# Altium integrated library Renesas Transistor.IntLib: 835 symbols (part 11 of 18)
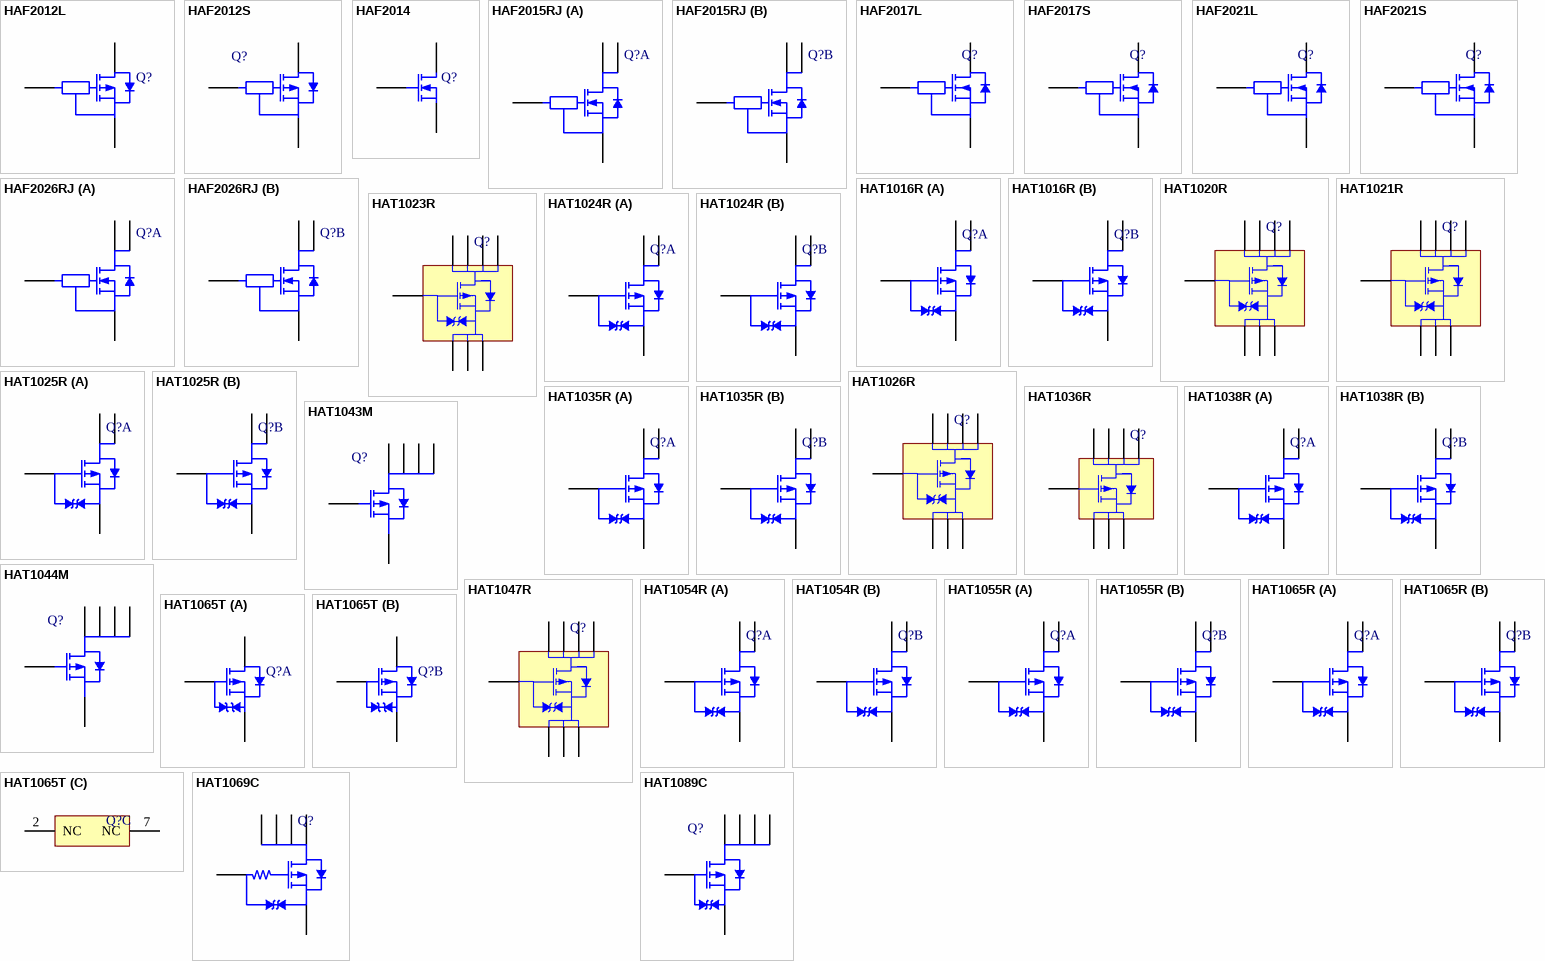
[diagram p32: symbols HAF2012L to HAT1089C]

## HAT1036R
designator Q?
Silicon P-Channel Power MOSFET, Power Switching; Published: 30-Oct-2009; DatasheetVersion: Rev.7.00, Sep-2005; PackageVersion: Sep-2005; PackageReference: PRSP0008DD-A; Publisher: Altium Limited; PackageDescription: 8-Pin Plastic Small Outline Integrated Circuit 1.27 mm Pitch (SOP-8); Code_IPC: SOIC127P600-8; ComponentLink1Description: Manufacturer Link; ComponentLink1URL: http://sg.renesas.com/fmwk.jsp?cnt=discrete_category_landing.jsp&fp=/products/discrete/; ComponentLink2Description: Datasheet; ComponentLink2URL: http://documentation.renesas.com/eng/products/transistor/rej03g1149_hat1036rds.pdf; ComponentLink3Description: Packaging Specification; ComponentLink3URL: http://sg.renesas.com/media/products/common_info/package/pdf/transistor/code/prsp0008dd_a.pdf
footprint PRSP0008DD-A_N (SOIC, 8-Leads, Body 4.9x3.95mm, Pitch 1.27mm, IPC Medium Density)
footprint PRSP0008DD-A_L (SOIC, 8-Leads, Body 4.9x3.95mm, Pitch 1.27mm, IPC High Density)
footprint PRSP0008DD-A_M (SOIC, 8-Leads, Body 4.9x3.95mm, Pitch 1.27mm, IPC Low Density)
pins: 1 S, 2 S, 3 S, 4 G, 5 D, 6 D, 7 D, 8 D

## HAT1038R
designator Q?
Silicon P-Channel Power MOSFET, High Speed Power Switching; Published: 30-Oct-2009; DatasheetVersion: Rev.5.00, Sep-2005; PackageVersion: Sep-2005; PackageReference: PRSP0008DD-A; Publisher: Altium Limited; PackageDescription: 8-Pin Plastic Small Outline Integrated Circuit 1.27 mm Pitch (SOP-8); Code_IPC: SOIC127P600-8; ComponentLink1Description: Manufacturer Link; ComponentLink1URL: http://sg.renesas.com/fmwk.jsp?cnt=discrete_category_landing.jsp&fp=/products/discrete/; ComponentLink2Description: Datasheet; ComponentLink2URL: http://documentation.renesas.com/eng/products/transistor/rej03g1150_hat1038rrjds.pdf; ComponentLink3Description: Packaging Specification; ComponentLink3URL: http://sg.renesas.com/media/products/common_info/package/pdf/transistor/code/prsp0008dd_a.pdf
footprint PRSP0008DD-A_N (SOIC, 8-Leads, Body 4.9x3.95mm, Pitch 1.27mm, IPC Medium Density)
footprint PRSP0008DD-A_L (SOIC, 8-Leads, Body 4.9x3.95mm, Pitch 1.27mm, IPC High Density)
footprint PRSP0008DD-A_M (SOIC, 8-Leads, Body 4.9x3.95mm, Pitch 1.27mm, IPC Low Density)
part A pins: 1 S, 2 G, 7 D, 8 D
part B pins: 3 S, 4 G, 5 D, 6 D

## HAT1043M
designator Q?
Silicon P-Channel Power MOSFET, Power Switching; Published: 30-Oct-2009; DatasheetVersion: Rev.6.00, Sep-2005; PackageVersion: Jul-2006; PackageReference: PTSP0006FA-A; Publisher: Altium Limited; PackageDescription: 6-Pin SOT-23 Package 1 mm Pitch, 2.8 mm Lead Span (TSOP-6); Code_JEITA: SC-95 Modified; ComponentLink1Description: Manufacturer Link; ComponentLink1URL: http://sg.renesas.com/fmwk.jsp?cnt=discrete_category_landing.jsp&fp=/products/discrete/; ComponentLink2Description: Datasheet; ComponentLink2URL: http://documentation.renesas.com/eng/products/transistor/rej03g1151_hat1043mds.pdf; ComponentLink3Description: Packaging Specification; ComponentLink3URL: http://sg.renesas.com/media/products/common_info/package/pdf/transistor/code/ptsp0006fa_a.pdf
footprint PTSP0006FA-A_N (SOT23, 6-Leads, Body 3x1.6mm, Pitch 1mm, Lead Span 2.8mm, IPC Medium Density)
footprint PTSP0006FA-A_L (SOT23, 6-Leads, Body 3x1.6mm, Pitch 1mm, Lead Span 2.8mm, IPC High Density)
footprint PTSP0006FA-A_M (SOT23, 6-Leads, Body 3x1.6mm, Pitch 1mm, Lead Span 2.8mm, IPC Low Density)
pins: 1 D, 2 D, 3 G, 4 S, 5 D, 6 D

## HAT1044M
designator Q?
Silicon P-Channel Power MOSFET, Power Switching; Published: 30-Oct-2009; DatasheetVersion: Rev.6.00, Sep-2005; PackageVersion: Jul-2006; PackageReference: PTSP0006FA-A; Publisher: Altium Limited; PackageDescription: 6-Pin SOT-23 Package 1 mm Pitch, 2.8 mm Lead Span (TSOP-6); Code_JEITA: SC-95 Modified; ComponentLink1Description: Manufacturer Link; ComponentLink1URL: http://sg.renesas.com/fmwk.jsp?cnt=discrete_category_landing.jsp&fp=/products/discrete/; ComponentLink2Description: Datasheet; ComponentLink2URL: http://documentation.renesas.com/eng/products/transistor/rej03g1152_hat1044mds.pdf; ComponentLink3Description: Packaging Specification; ComponentLink3URL: http://sg.renesas.com/media/products/common_info/package/pdf/transistor/code/ptsp0006fa_a.pdf
footprint PTSP0006FA-A_N (SOT23, 6-Leads, Body 3x1.6mm, Pitch 1mm, Lead Span 2.8mm, IPC Medium Density)
footprint PTSP0006FA-A_L (SOT23, 6-Leads, Body 3x1.6mm, Pitch 1mm, Lead Span 2.8mm, IPC High Density)
footprint PTSP0006FA-A_M (SOT23, 6-Leads, Body 3x1.6mm, Pitch 1mm, Lead Span 2.8mm, IPC Low Density)
pins: 1 D, 2 D, 3 G, 4 S, 5 D, 6 D

## HAT1047R
designator Q?
Silicon P-Channel Power MOSFET, High Speed Power Switching; Published: 30-Oct-2009; DatasheetVersion: Rev.5.00, Aug-2003; PackageVersion: Sep-2005; PackageReference: PRSP0008DD-A; Publisher: Altium Limited; PackageDescription: 8-Pin Plastic Small Outline Integrated Circuit 1.27 mm Pitch (SOP-8); Code_IPC: SOIC127P600-8; ComponentLink1Description: Manufacturer Link; ComponentLink1URL: http://sg.renesas.com/fmwk.jsp?cnt=discrete_category_landing.jsp&fp=/products/discrete/; ComponentLink2Description: Datasheet; ComponentLink2URL: http://documentation.renesas.com/eng/products/transistor/rej03g0074_hat1047rrj.pdf; ComponentLink3Description: Packaging Specification; ComponentLink3URL: http://sg.renesas.com/media/products/common_info/package/pdf/transistor/code/prsp0008dd_a.pdf
footprint PRSP0008DD-A_N (SOIC, 8-Leads, Body 4.9x3.95mm, Pitch 1.27mm, IPC Medium Density)
footprint PRSP0008DD-A_L (SOIC, 8-Leads, Body 4.9x3.95mm, Pitch 1.27mm, IPC High Density)
footprint PRSP0008DD-A_M (SOIC, 8-Leads, Body 4.9x3.95mm, Pitch 1.27mm, IPC Low Density)
pins: 1 S, 2 S, 3 S, 4 G, 5 D, 6 D, 7 D, 8 D

## HAT1054R
designator Q?
Silicon P-Channel Power MOSFET, High Speed Power Switching; Published: 30-Oct-2009; DatasheetVersion: Rev.3.00, Sep-2005; PackageVersion: Sep-2005; PackageReference: PRSP0008DD-A; Publisher: Altium Limited; PackageDescription: 8-Pin Plastic Small Outline Integrated Circuit 1.27 mm Pitch (SOP-8); Code_IPC: SOIC127P600-8; ComponentLink1Description: Manufacturer Link; ComponentLink1URL: http://sg.renesas.com/fmwk.jsp?cnt=discrete_category_landing.jsp&fp=/products/discrete/; ComponentLink2Description: Datasheet; ComponentLink2URL: http://documentation.renesas.com/eng/products/transistor/rej03g1154_hat1054rds.pdf; ComponentLink3Description: Packaging Specification; ComponentLink3URL: http://sg.renesas.com/media/products/common_info/package/pdf/transistor/code/prsp0008dd_a.pdf
footprint PRSP0008DD-A_N (SOIC, 8-Leads, Body 4.9x3.95mm, Pitch 1.27mm, IPC Medium Density)
footprint PRSP0008DD-A_L (SOIC, 8-Leads, Body 4.9x3.95mm, Pitch 1.27mm, IPC High Density)
footprint PRSP0008DD-A_M (SOIC, 8-Leads, Body 4.9x3.95mm, Pitch 1.27mm, IPC Low Density)
part A pins: 1 S, 2 G, 7 D, 8 D
part B pins: 3 S, 4 G, 5 D, 6 D

## HAT1055R
designator Q?
Silicon P-Channel Power MOSFET, High Speed Power Switching; Published: 30-Oct-2009; DatasheetVersion: Rev.1.00, Aug-2003; PackageVersion: Sep-2005; PackageReference: PRSP0008DD-A; Publisher: Altium Limited; PackageDescription: 8-Pin Plastic Small Outline Integrated Circuit 1.27 mm Pitch (SOP-8); Code_IPC: SOIC127P600-8; ComponentLink1Description: Manufacturer Link; ComponentLink1URL: http://sg.renesas.com/fmwk.jsp?cnt=discrete_category_landing.jsp&fp=/products/discrete/; ComponentLink2Description: Datasheet; ComponentLink2URL: http://documentation.renesas.com/eng/products/transistor/rej03g0067_hat1055r.pdf; ComponentLink3Description: Packaging Specification; ComponentLink3URL: http://sg.renesas.com/media/products/common_info/package/pdf/transistor/code/prsp0008dd_a.pdf
footprint PRSP0008DD-A_N (SOIC, 8-Leads, Body 4.9x3.95mm, Pitch 1.27mm, IPC Medium Density)
footprint PRSP0008DD-A_L (SOIC, 8-Leads, Body 4.9x3.95mm, Pitch 1.27mm, IPC High Density)
footprint PRSP0008DD-A_M (SOIC, 8-Leads, Body 4.9x3.95mm, Pitch 1.27mm, IPC Low Density)
part A pins: 1 S, 2 G, 7 D, 8 D
part B pins: 3 S, 4 G, 5 D, 6 D

## HAT1065R
designator Q?
Silicon P-Channel MOSFET, High Speed Power Switching; Published: 30-Oct-2009; DatasheetVersion: Rev.2.00, Apr-2006; PackageVersion: Sep-2005; PackageReference: PRSP0008DD-A; Publisher: Altium Limited; PackageDescription: 8-Pin Plastic Small Outline Integrated Circuit 1.27 mm Pitch (SOP-8); Code_IPC: SOIC127P600-8; ComponentLink1Description: Manufacturer Link; ComponentLink1URL: http://sg.renesas.com/fmwk.jsp?cnt=discrete_category_landing.jsp&fp=/products/discrete/; ComponentLink2Description: Datasheet; ComponentLink2URL: http://documentation.renesas.com/eng/products/transistor/rej03g0579_hat1065r.pdf; ComponentLink3Description: Packaging Specification; ComponentLink3URL: http://sg.renesas.com/media/products/common_info/package/pdf/transistor/code/prsp0008dd_a.pdf
footprint PRSP0008DD-A_N (SOIC, 8-Leads, Body 4.9x3.95mm, Pitch 1.27mm, IPC Medium Density)
footprint PRSP0008DD-A_L (SOIC, 8-Leads, Body 4.9x3.95mm, Pitch 1.27mm, IPC High Density)
footprint PRSP0008DD-A_M (SOIC, 8-Leads, Body 4.9x3.95mm, Pitch 1.27mm, IPC Low Density)
part A pins: 1 S, 2 G, 7 D, 8 D
part B pins: 3 S, 4 G, 5 D, 6 D

## HAT1065T
designator Q?
Silicon P-Channel MOSFET, High Speed Power Switching; Published: 30-Oct-2009; DatasheetVersion: Rev.2.00, Aug-2007; PackageVersion: Sep-2007; PackageReference: PTSP0008JB-B; Publisher: Altium Limited; PackageDescription: 8-Pin Plastic Thin Small Outline Package 0.65 mm Pitch (TSSOP-8); Code_JEITA: P-TSSOP8-4.4×3-0.65; ComponentLink1Description: Manufacturer Link; ComponentLink1URL: http://sg.renesas.com/fmwk.jsp?cnt=discrete_category_landing.jsp&fp=/products/discrete/; ComponentLink2Description: Datasheet; ComponentLink2URL: http://documentation.renesas.com/eng/products/transistor/rej03g0161_hat1065tds.pdf; ComponentLink3Description: Packaging Specification; ComponentLink3URL: http://sg.renesas.com/media/products/common_info/package/pdf/transistor/code/ptsp0008jb_b.pdf
footprint PTSP0008JB-B_N (TSOP, 8-Leads, Body 3x4.4mm, Pitch 0.65mm, IPC Medium Density)
footprint PTSP0008JB-B_L (TSOP, 8-Leads, Body 3x4.4mm, Pitch 0.65mm, IPC High Density)
footprint PTSP0008JB-B_M (TSOP, 8-Leads, Body 3x4.4mm, Pitch 0.65mm, IPC Low Density)
part A pins: 1 D, 3 S, 4 G
part B pins: 5 G, 6 S, 8 D
part C pins: 2 NC, 7 NC

## HAT1069C
designator Q?
Silicon P-Channel Power MOSFET, Power Switching; Published: 30-Oct-2009; DatasheetVersion: Rev.3.00, Oct-2007; PackageVersion: Jul-2006; PackageReference: PWSF0006JA-A; Publisher: Altium Limited; PackageDescription: 6-Pin Plastic Dual Lead-Flat Package 0.65 mm Pitch (CMFPAK-6); ComponentLink1Description: Manufacturer Link; ComponentLink1URL: http://sg.renesas.com/fmwk.jsp?cnt=discrete_category_landing.jsp&fp=/products/discrete/; ComponentLink2Description: Datasheet; ComponentLink2URL: http://documentation.renesas.com/eng/products/transistor/rej03g0164_hat1069c.pdf; ComponentLink3Description: Packaging Specification; ComponentLink3URL: http://sg.renesas.com/media/products/common_info/package/pdf/transistor/code/pwsf0006ja_a.pdf
footprint PWSF0006JA-A (SOP, 6-Flat Leads, Body 2x1.7x0.8mm, Pitch 0.65mm)
pins: 1 S, 2 D, 3 D, 4 D, 5 D, 6 G

## HAT1089C
designator Q?
Silicon P-Channel MOSFET, Power Switching; Published: 30-Oct-2009; DatasheetVersion: Rev.3.00, Jun-2005; PackageVersion: Jul-2006; PackageReference: PWSF0006JA-A; Publisher: Altium Limited; PackageDescription: 6-Pin Plastic Dual Lead-Flat Package 0.65 mm Pitch (CMFPAK-6); ComponentLink1Description: Manufacturer Link; ComponentLink1URL: http://sg.renesas.com/fmwk.jsp?cnt=discrete_category_landing.jsp&fp=/products/discrete/; ComponentLink2Description: Datasheet; ComponentLink2URL: http://documentation.renesas.com/eng/products/transistor/rej03g1227_hat1089c.pdf; ComponentLink3Description: Packaging Specification; ComponentLink3URL: http://sg.renesas.com/media/products/common_info/package/pdf/transistor/code/pwsf0006ja_a.pdf
footprint PWSF0006JA-A (SOP, 6-Flat Leads, Body 2x1.7x0.8mm, Pitch 0.65mm)
pins: 1 S, 2 D, 3 D, 4 D, 5 D, 6 G

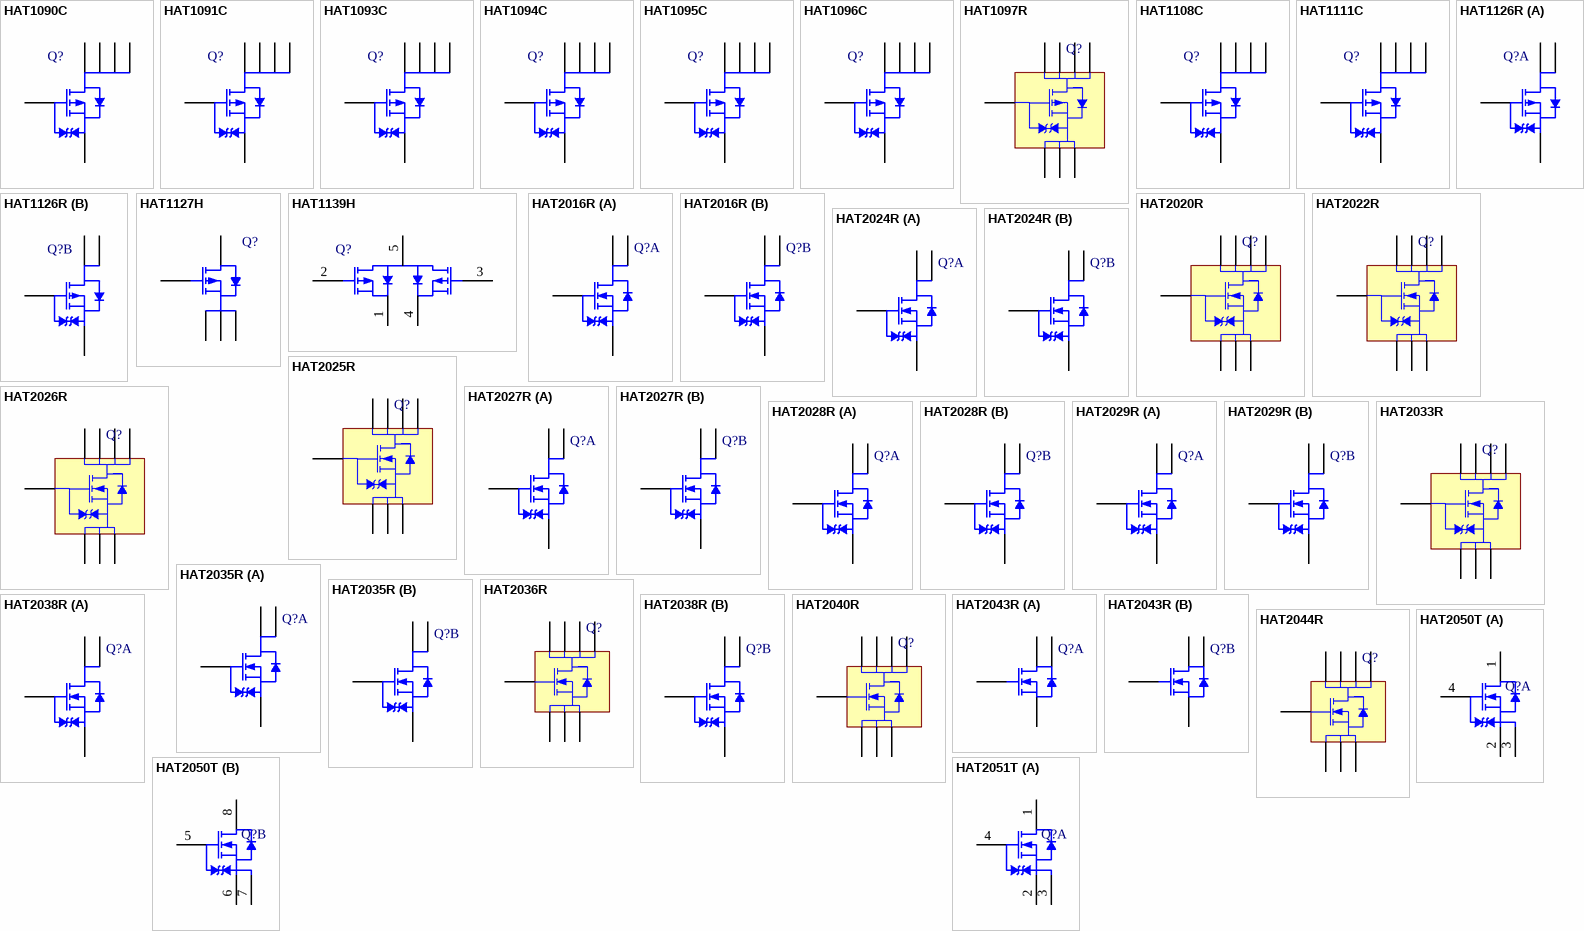
[diagram p13: symbols HAT1090C to HAT2051T]

## HAT1090C
designator Q?
Silicon P-Channel MOSFET, Power Switching; Published: 30-Oct-2009; DatasheetVersion: Rev.4.00, Jun-2005; PackageVersion: Jul-2006; PackageReference: PWSF0006JA-A; Publisher: Altium Limited; PackageDescription: 6-Pin Plastic Dual Lead-Flat Package 0.65 mm Pitch (CMFPAK-6); ComponentLink1Description: Manufacturer Link; ComponentLink1URL: http://sg.renesas.com/fmwk.jsp?cnt=discrete_category_landing.jsp&fp=/products/discrete/; ComponentLink2Description: Datasheet; ComponentLink2URL: http://documentation.renesas.com/eng/products/transistor/rej03g1228_hat1090c.pdf; ComponentLink3Description: Packaging Specification; ComponentLink3URL: http://sg.renesas.com/media/products/common_info/package/pdf/transistor/code/pwsf0006ja_a.pdf
footprint PWSF0006JA-A (SOP, 6-Flat Leads, Body 2x1.7x0.8mm, Pitch 0.65mm)
pins: 1 S, 2 D, 3 D, 4 D, 5 D, 6 G

## HAT1091C
designator Q?
Silicon P-Channel MOSFET, Power Switching; Published: 30-Oct-2009; DatasheetVersion: Rev.4.00, Jun-2005; PackageVersion: Jul-2006; PackageReference: PWSF0006JA-A; Publisher: Altium Limited; PackageDescription: 6-Pin Plastic Dual Lead-Flat Package 0.65 mm Pitch (CMFPAK-6); ComponentLink1Description: Manufacturer Link; ComponentLink1URL: http://sg.renesas.com/fmwk.jsp?cnt=discrete_category_landing.jsp&fp=/products/discrete/; ComponentLink2Description: Datasheet; ComponentLink2URL: http://documentation.renesas.com/eng/products/transistor/rej03g1229_hat1091c.pdf; ComponentLink3Description: Packaging Specification; ComponentLink3URL: http://sg.renesas.com/media/products/common_info/package/pdf/transistor/code/pwsf0006ja_a.pdf
footprint PWSF0006JA-A (SOP, 6-Flat Leads, Body 2x1.7x0.8mm, Pitch 0.65mm)
pins: 1 S, 2 D, 3 D, 4 D, 5 D, 6 G

## HAT1093C
designator Q?
Silicon P-Channel MOSFET, Power Switching; Published: 30-Oct-2009; DatasheetVersion: Rev.5.00, Jan-2006; PackageVersion: Jul-2006; PackageReference: PWSF0006JA-A; Publisher: Altium Limited; PackageDescription: 6-Pin Plastic Dual Lead-Flat Package 0.65 mm Pitch (CMFPAK-6); ComponentLink1Description: Manufacturer Link; ComponentLink1URL: http://sg.renesas.com/fmwk.jsp?cnt=discrete_category_landing.jsp&fp=/products/discrete/; ComponentLink2Description: Datasheet; ComponentLink2URL: http://documentation.renesas.com/eng/products/transistor/rej03g1230_hat1093c.pdf; ComponentLink3Description: Packaging Specification; ComponentLink3URL: http://sg.renesas.com/media/products/common_info/package/pdf/transistor/code/pwsf0006ja_a.pdf
footprint PWSF0006JA-A (SOP, 6-Flat Leads, Body 2x1.7x0.8mm, Pitch 0.65mm)
pins: 1 S, 2 D, 3 D, 4 D, 5 D, 6 G

## HAT1094C
designator Q?
Silicon P-Channel MOSFET, Power Switching; Published: 30-Oct-2009; DatasheetVersion: Rev.4.00, Feb-2006; PackageVersion: Jul-2006; PackageReference: PWSF0006JA-A; Publisher: Altium Limited; PackageDescription: 6-Pin Plastic Dual Lead-Flat Package 0.65 mm Pitch (CMFPAK-6); ComponentLink1Description: Manufacturer Link; ComponentLink1URL: http://sg.renesas.com/fmwk.jsp?cnt=discrete_category_landing.jsp&fp=/products/discrete/; ComponentLink2Description: Datasheet; ComponentLink2URL: http://documentation.renesas.com/eng/products/transistor/rej03g1231_hat1094c.pdf; ComponentLink3Description: Packaging Specification; ComponentLink3URL: http://sg.renesas.com/media/products/common_info/package/pdf/transistor/code/pwsf0006ja_a.pdf
footprint PWSF0006JA-A (SOP, 6-Flat Leads, Body 2x1.7x0.8mm, Pitch 0.65mm)
pins: 1 S, 2 D, 3 D, 4 D, 5 D, 6 G

## HAT1095C
designator Q?
Silicon P-Channel MOSFET, Power Switching; Published: 30-Oct-2009; DatasheetVersion: Rev.5.00, Jan-2006; PackageVersion: Jul-2006; PackageReference: PWSF0006JA-A; Publisher: Altium Limited; PackageDescription: 6-Pin Plastic Dual Lead-Flat Package 0.65 mm Pitch (CMFPAK-6); ComponentLink1Description: Manufacturer Link; ComponentLink1URL: http://sg.renesas.com/fmwk.jsp?cnt=discrete_category_landing.jsp&fp=/products/discrete/; ComponentLink2Description: Datasheet; ComponentLink2URL: http://documentation.renesas.com/eng/products/transistor/rej03g1232_hat1095c.pdf; ComponentLink3Description: Packaging Specification; ComponentLink3URL: http://sg.renesas.com/media/products/common_info/package/pdf/transistor/code/pwsf0006ja_a.pdf
footprint PWSF0006JA-A (SOP, 6-Flat Leads, Body 2x1.7x0.8mm, Pitch 0.65mm)
pins: 1 S, 2 D, 3 D, 4 D, 5 D, 6 G

## HAT1096C
designator Q?
Silicon P-Channel MOSFET, Power Switching; Published: 30-Oct-2009; DatasheetVersion: Rev.4.00, Jan-2006; PackageVersion: Jul-2006; PackageReference: PWSF0006JA-A; Publisher: Altium Limited; PackageDescription: 6-Pin Plastic Dual Lead-Flat Package 0.65 mm Pitch (CMFPAK-6); ComponentLink1Description: Manufacturer Link; ComponentLink1URL: http://sg.renesas.com/fmwk.jsp?cnt=discrete_category_landing.jsp&fp=/products/discrete/; ComponentLink2Description: Datasheet; ComponentLink2URL: http://documentation.renesas.com/eng/products/transistor/rej03g1233_hat1096c.pdf; ComponentLink3Description: Packaging Specification; ComponentLink3URL: http://sg.renesas.com/media/products/common_info/package/pdf/transistor/code/pwsf0006ja_a.pdf
footprint PWSF0006JA-A (SOP, 6-Flat Leads, Body 2x1.7x0.8mm, Pitch 0.65mm)
pins: 1 S, 2 D, 3 D, 4 D, 5 D, 6 G

## HAT1097R
designator Q?
Silicon P-Channel MOSFET, High Speed Power Switching; Published: 30-Oct-2009; DatasheetVersion: Rev.1.00, Feb-2005; PackageVersion: Sep-2005; PackageReference: PRSP0008DD-A; Publisher: Altium Limited; PackageDescription: 8-Pin Plastic Small Outline Integrated Circuit 1.27 mm Pitch (SOP-8); Code_IPC: SOIC127P600-8; ComponentLink1Description: Manufacturer Link; ComponentLink1URL: http://sg.renesas.com/fmwk.jsp?cnt=discrete_category_landing.jsp&fp=/products/discrete/; ComponentLink2Description: Datasheet; ComponentLink2URL: http://documentation.renesas.com/eng/products/transistor/rej03g0529_hat1097rrj.pdf; ComponentLink3Description: Packaging Specification; ComponentLink3URL: http://sg.renesas.com/media/products/common_info/package/pdf/transistor/code/prsp0008dd_a.pdf
footprint PRSP0008DD-A_N (SOIC, 8-Leads, Body 4.9x3.95mm, Pitch 1.27mm, IPC Medium Density)
footprint PRSP0008DD-A_L (SOIC, 8-Leads, Body 4.9x3.95mm, Pitch 1.27mm, IPC High Density)
footprint PRSP0008DD-A_M (SOIC, 8-Leads, Body 4.9x3.95mm, Pitch 1.27mm, IPC Low Density)
pins: 1 S, 2 S, 3 S, 4 G, 5 D, 6 D, 7 D, 8 D

## HAT1108C
designator Q?
Silicon P-Channel MOSFET, Power Switching; Published: 30-Oct-2009; DatasheetVersion: Rev.5.00, Aug-2006; PackageVersion: Jul-2006; PackageReference: PWSF0006JA-A; Publisher: Altium Limited; PackageDescription: 6-Pin Plastic Dual Lead-Flat Package 0.65 mm Pitch (CMFPAK-6); ComponentLink1Description: Manufacturer Link; ComponentLink1URL: http://sg.renesas.com/fmwk.jsp?cnt=discrete_category_landing.jsp&fp=/products/discrete/; ComponentLink2Description: Datasheet; ComponentLink2URL: http://documentation.renesas.com/eng/products/transistor/rej03g1234_hat1108c.pdf; ComponentLink3Description: Packaging Specification; ComponentLink3URL: http://sg.renesas.com/media/products/common_info/package/pdf/transistor/code/pwsf0006ja_a.pdf
footprint PWSF0006JA-A (SOP, 6-Flat Leads, Body 2x1.7x0.8mm, Pitch 0.65mm)
pins: 1 S, 2 D, 3 D, 4 D, 5 D, 6 G

## HAT1111C
designator Q?
Silicon P-Channel MOSFET, Power Switching; Published: 30-Oct-2009; DatasheetVersion: Rev.6.00, May-2005; PackageVersion: Jul-2006; PackageReference: PWSF0006JA-A; Publisher: Altium Limited; PackageDescription: 6-Pin Plastic Dual Lead-Flat Package 0.65 mm Pitch (CMFPAK-6); ComponentLink1Description: Manufacturer Link; ComponentLink1URL: http://sg.renesas.com/fmwk.jsp?cnt=discrete_category_landing.jsp&fp=/products/discrete/; ComponentLink2Description: Datasheet; ComponentLink2URL: http://documentation.renesas.com/eng/products/transistor/rej03g0446_hat1111c.pdf; ComponentLink3Description: Packaging Specification; ComponentLink3URL: http://sg.renesas.com/media/products/common_info/package/pdf/transistor/code/pwsf0006ja_a.pdf
footprint PWSF0006JA-A (SOP, 6-Flat Leads, Body 2x1.7x0.8mm, Pitch 0.65mm)
pins: 1 S, 2 D, 3 D, 4 D, 5 D, 6 G

## HAT1126R
designator Q?
Silicon P-Channel MOSFET, High Speed Power Switching; Published: 30-Oct-2009; DatasheetVersion: Rev.1.00, Sep-2004; PackageVersion: Sep-2005; PackageReference: PRSP0008DD-A; Publisher: Altium Limited; PackageDescription: 8-Pin Plastic Small Outline Integrated Circuit 1.27 mm Pitch (SOP-8); Code_IPC: SOIC127P600-8; ComponentLink1Description: Manufacturer Link; ComponentLink1URL: http://sg.renesas.com/fmwk.jsp?cnt=discrete_category_landing.jsp&fp=/products/discrete/; ComponentLink2Description: Datasheet; ComponentLink2URL: http://documentation.renesas.com/eng/products/transistor/rej03g0406_hat1126rrj.pdf; ComponentLink3Description: Packaging Specification; ComponentLink3URL: http://sg.renesas.com/media/products/common_info/package/pdf/transistor/code/prsp0008dd_a.pdf
footprint PRSP0008DD-A_N (SOIC, 8-Leads, Body 4.9x3.95mm, Pitch 1.27mm, IPC Medium Density)
footprint PRSP0008DD-A_L (SOIC, 8-Leads, Body 4.9x3.95mm, Pitch 1.27mm, IPC High Density)
footprint PRSP0008DD-A_M (SOIC, 8-Leads, Body 4.9x3.95mm, Pitch 1.27mm, IPC Low Density)
part A pins: 1 S, 2 G, 7 D, 8 D
part B pins: 3 S, 4 G, 5 D, 6 D

## HAT1127H
designator Q?
Silicon P-Channel Power MOSFET, Power Switching; Published: 30-Oct-2009; DatasheetVersion: Rev.5.00, Jan-2006; PackageVersion: Sep-2005; PackageReference: PTZZ0005DA-A; Publisher: Altium Limited; PackageDescription: 5-Pin Plastic Transistor Outline Package 4 x 4.9 mm Body (LFPAK); Code_JEITA: SC-100; ComponentLink1Description: Manufacturer Link; ComponentLink1URL: http://sg.renesas.com/fmwk.jsp?cnt=discrete_category_landing.jsp&fp=/products/discrete/; ComponentLink2Description: Datasheet; ComponentLink2URL: http://documentation.renesas.com/eng/products/transistor/rej03g1330_hat1127hds.pdf; ComponentLink3Description: Packaging Specification; ComponentLink3URL: http://sg.renesas.com/media/products/common_info/package/pdf/transistor/code/ptzz0005da_a.pdf
footprint PTZZ0005DA-A_N (TO, 5-Leads, Body 4x4.9mm, Pitch 1.27mm, Lead Span 6mm, IPC Medium Density)
footprint PTZZ0005DA-A_L (TO, 5-Leads, Body 4x4.9mm, Pitch 1.27mm, Lead Span 6mm, IPC High Density)
footprint PTZZ0005DA-A_M (TO, 5-Leads, Body 4x4.9mm, Pitch 1.27mm, Lead Span 6mm, IPC Low Density)
pins: 1 S, 2 S, 3 S, 4 G, 5 D

## HAT1139H
designator Q?
Silicon P-Channel Power MOSFET, Power Switching; Published: 30-Oct-2009; DatasheetVersion: Rev.2.00, Jun-2005; PackageVersion: Sep-2005; PackageReference: PTZZ0005DA-A; Publisher: Altium Limited; PackageDescription: 5-Pin Plastic Transistor Outline Package 4 x 4.9 mm Body (LFPAK); Code_JEITA: SC-100; ComponentLink1Description: Manufacturer Link; ComponentLink1URL: http://sg.renesas.com/fmwk.jsp?cnt=discrete_category_landing.jsp&fp=/products/discrete/; ComponentLink2Description: Datasheet; ComponentLink2URL: http://documentation.renesas.com/eng/products/transistor/rej03g1244_hat1139h.pdf; ComponentLink3Description: Packaging Specification; ComponentLink3URL: http://sg.renesas.com/media/products/common_info/package/pdf/transistor/code/ptzz0005da_a.pdf
footprint PTZZ0005DA-A_N (TO, 5-Leads, Body 4x4.9mm, Pitch 1.27mm, Lead Span 6mm, IPC Medium Density)
footprint PTZZ0005DA-A_L (TO, 5-Leads, Body 4x4.9mm, Pitch 1.27mm, Lead Span 6mm, IPC High Density)
footprint PTZZ0005DA-A_M (TO, 5-Leads, Body 4x4.9mm, Pitch 1.27mm, Lead Span 6mm, IPC Low Density)
pins: 1 S, 2 G, 3 G, 4 S, 5 D

## HAT2016R
designator Q?
Silicon N-Channel Power MOSFET, High Speed Power Switching; Published: 30-Oct-2009; DatasheetVersion: Rev.10.00, Sep-2005; PackageVersion: Sep-2005; PackageReference: PRSP0008DD-A; Publisher: Altium Limited; PackageDescription: 8-Pin Plastic Small Outline Integrated Circuit 1.27 mm Pitch (SOP-8); Code_IPC: SOIC127P600-8; ComponentLink1Description: Manufacturer Link; ComponentLink1URL: http://sg.renesas.com/fmwk.jsp?cnt=discrete_category_landing.jsp&fp=/products/discrete/; ComponentLink2Description: Datasheet; ComponentLink2URL: http://documentation.renesas.com/eng/products/transistor/rej03g1156_hat2016rds.pdf; ComponentLink3Description: Packaging Specification; ComponentLink3URL: http://sg.renesas.com/media/products/common_info/package/pdf/transistor/code/prsp0008dd_a.pdf
footprint PRSP0008DD-A_N (SOIC, 8-Leads, Body 4.9x3.95mm, Pitch 1.27mm, IPC Medium Density)
footprint PRSP0008DD-A_L (SOIC, 8-Leads, Body 4.9x3.95mm, Pitch 1.27mm, IPC High Density)
footprint PRSP0008DD-A_M (SOIC, 8-Leads, Body 4.9x3.95mm, Pitch 1.27mm, IPC Low Density)
part A pins: 1 S, 2 G, 7 D, 8 D
part B pins: 3 S, 4 G, 5 D, 6 D

## HAT2020R
designator Q?
Silicon N-Channel Power MOSFET, High Speed Power Switching; Published: 30-Oct-2009; DatasheetVersion: Rev.12.00, Sep-2005; PackageVersion: Sep-2005; PackageReference: PRSP0008DD-A; Publisher: Altium Limited; PackageDescription: 8-Pin Plastic Small Outline Integrated Circuit 1.27 mm Pitch (SOP-8); Code_IPC: SOIC127P600-8; ComponentLink1Description: Manufacturer Link; ComponentLink1URL: http://sg.renesas.com/fmwk.jsp?cnt=discrete_category_landing.jsp&fp=/products/discrete/; ComponentLink2Description: Datasheet; ComponentLink2URL: http://documentation.renesas.com/eng/products/transistor/rej03g1157_hat2020rds.pdf; ComponentLink3Description: Packaging Specification; ComponentLink3URL: http://sg.renesas.com/media/products/common_info/package/pdf/transistor/code/prsp0008dd_a.pdf
footprint PRSP0008DD-A_N (SOIC, 8-Leads, Body 4.9x3.95mm, Pitch 1.27mm, IPC Medium Density)
footprint PRSP0008DD-A_L (SOIC, 8-Leads, Body 4.9x3.95mm, Pitch 1.27mm, IPC High Density)
footprint PRSP0008DD-A_M (SOIC, 8-Leads, Body 4.9x3.95mm, Pitch 1.27mm, IPC Low Density)
pins: 1 S, 2 S, 3 S, 4 G, 5 D, 6 D, 7 D, 8 D

## HAT2022R
designator Q?
Silicon N-Channel Power MOSFET, High Speed Power Switching; Published: 30-Oct-2009; DatasheetVersion: Rev.12.00, Sep-2005; PackageVersion: Sep-2005; PackageReference: PRSP0008DD-A; Publisher: Altium Limited; PackageDescription: 8-Pin Plastic Small Outline Integrated Circuit 1.27 mm Pitch (SOP-8); Code_IPC: SOIC127P600-8; ComponentLink1Description: Manufacturer Link; ComponentLink1URL: http://sg.renesas.com/fmwk.jsp?cnt=discrete_category_landing.jsp&fp=/products/discrete/; ComponentLink2Description: Datasheet; ComponentLink2URL: http://documentation.renesas.com/eng/products/transistor/rej03g1158_hat2022rds.pdf; ComponentLink3Description: Packaging Specification; ComponentLink3URL: http://sg.renesas.com/media/products/common_info/package/pdf/transistor/code/prsp0008dd_a.pdf
footprint PRSP0008DD-A_N (SOIC, 8-Leads, Body 4.9x3.95mm, Pitch 1.27mm, IPC Medium Density)
footprint PRSP0008DD-A_L (SOIC, 8-Leads, Body 4.9x3.95mm, Pitch 1.27mm, IPC High Density)
footprint PRSP0008DD-A_M (SOIC, 8-Leads, Body 4.9x3.95mm, Pitch 1.27mm, IPC Low Density)
pins: 1 S, 2 S, 3 S, 4 G, 5 D, 6 D, 7 D, 8 D

## HAT2024R
designator Q?
Silicon N-Channel Power MOSFET, High Speed Power Switching; Published: 30-Oct-2009; DatasheetVersion: Rev.5.00, Sep-2005; PackageVersion: Sep-2005; PackageReference: PRSP0008DD-A; Publisher: Altium Limited; PackageDescription: 8-Pin Plastic Small Outline Integrated Circuit 1.27 mm Pitch (SOP-8); Code_IPC: SOIC127P600-8; ComponentLink1Description: Manufacturer Link; ComponentLink1URL: http://sg.renesas.com/fmwk.jsp?cnt=discrete_category_landing.jsp&fp=/products/discrete/; ComponentLink2Description: Datasheet; ComponentLink2URL: http://documentation.renesas.com/eng/products/transistor/rej03g1159_hat2024rds.pdf; ComponentLink3Description: Packaging Specification; ComponentLink3URL: http://sg.renesas.com/media/products/common_info/package/pdf/transistor/code/prsp0008dd_a.pdf
footprint PRSP0008DD-A_N (SOIC, 8-Leads, Body 4.9x3.95mm, Pitch 1.27mm, IPC Medium Density)
footprint PRSP0008DD-A_L (SOIC, 8-Leads, Body 4.9x3.95mm, Pitch 1.27mm, IPC High Density)
footprint PRSP0008DD-A_M (SOIC, 8-Leads, Body 4.9x3.95mm, Pitch 1.27mm, IPC Low Density)
part A pins: 1 S, 2 G, 7 D, 8 D
part B pins: 3 S, 4 G, 5 D, 6 D

## HAT2025R
designator Q?
Silicon N-Channel Power MOSFET, High Speed Power Switching; Published: 30-Oct-2009; DatasheetVersion: Rev.5.00, Sep-2005; PackageVersion: Sep-2005; PackageReference: PRSP0008DD-A; Publisher: Altium Limited; PackageDescription: 8-Pin Plastic Small Outline Integrated Circuit 1.27 mm Pitch (SOP-8); Code_IPC: SOIC127P600-8; ComponentLink1Description: Manufacturer Link; ComponentLink1URL: http://sg.renesas.com/fmwk.jsp?cnt=discrete_category_landing.jsp&fp=/products/discrete/; ComponentLink2Description: Datasheet; ComponentLink2URL: http://documentation.renesas.com/eng/products/transistor/rej03g1160_hat2025rds.pdf; ComponentLink3Description: Packaging Specification; ComponentLink3URL: http://sg.renesas.com/media/products/common_info/package/pdf/transistor/code/prsp0008dd_a.pdf
footprint PRSP0008DD-A_N (SOIC, 8-Leads, Body 4.9x3.95mm, Pitch 1.27mm, IPC Medium Density)
footprint PRSP0008DD-A_L (SOIC, 8-Leads, Body 4.9x3.95mm, Pitch 1.27mm, IPC High Density)
footprint PRSP0008DD-A_M (SOIC, 8-Leads, Body 4.9x3.95mm, Pitch 1.27mm, IPC Low Density)
pins: 1 S, 2 S, 3 S, 4 G, 5 D, 6 D, 7 D, 8 D

## HAT2026R
designator Q?
Silicon N-Channel Power MOSFET, High Speed Power Switching; Published: 30-Oct-2009; DatasheetVersion: Rev.5.00, Sep-2005; PackageVersion: Sep-2005; PackageReference: PRSP0008DD-A; Publisher: Altium Limited; PackageDescription: 8-Pin Plastic Small Outline Integrated Circuit 1.27 mm Pitch (SOP-8); Code_IPC: SOIC127P600-8; ComponentLink1Description: Manufacturer Link; ComponentLink1URL: http://sg.renesas.com/fmwk.jsp?cnt=discrete_category_landing.jsp&fp=/products/discrete/; ComponentLink2Description: Datasheet; ComponentLink2URL: http://documentation.renesas.com/eng/products/transistor/rej03g1161_hat2026rds.pdf; ComponentLink3Description: Packaging Specification; ComponentLink3URL: http://sg.renesas.com/media/products/common_info/package/pdf/transistor/code/prsp0008dd_a.pdf
footprint PRSP0008DD-A_N (SOIC, 8-Leads, Body 4.9x3.95mm, Pitch 1.27mm, IPC Medium Density)
footprint PRSP0008DD-A_L (SOIC, 8-Leads, Body 4.9x3.95mm, Pitch 1.27mm, IPC High Density)
footprint PRSP0008DD-A_M (SOIC, 8-Leads, Body 4.9x3.95mm, Pitch 1.27mm, IPC Low Density)
pins: 1 S, 2 S, 3 S, 4 G, 5 D, 6 D, 7 D, 8 D

## HAT2027R
designator Q?
Silicon N-Channel Power MOSFET, High Speed Power Switching; Published: 30-Oct-2009; DatasheetVersion: Rev.8.00, Sep-2005; PackageVersion: Sep-2005; PackageReference: PRSP0008DD-A; Publisher: Altium Limited; PackageDescription: 8-Pin Plastic Small Outline Integrated Circuit 1.27 mm Pitch (SOP-8); Code_IPC: SOIC127P600-8; ComponentLink1Description: Manufacturer Link; ComponentLink1URL: http://sg.renesas.com/fmwk.jsp?cnt=discrete_category_landing.jsp&fp=/products/discrete/; ComponentLink2Description: Datasheet; ComponentLink2URL: http://documentation.renesas.com/eng/products/transistor/rej03g1162_hat2027rds.pdf; ComponentLink3Description: Packaging Specification; ComponentLink3URL: http://sg.renesas.com/media/products/common_info/package/pdf/transistor/code/prsp0008dd_a.pdf
footprint PRSP0008DD-A_N (SOIC, 8-Leads, Body 4.9x3.95mm, Pitch 1.27mm, IPC Medium Density)
footprint PRSP0008DD-A_L (SOIC, 8-Leads, Body 4.9x3.95mm, Pitch 1.27mm, IPC High Density)
footprint PRSP0008DD-A_M (SOIC, 8-Leads, Body 4.9x3.95mm, Pitch 1.27mm, IPC Low Density)
part A pins: 1 S, 2 G, 7 D, 8 D
part B pins: 3 S, 4 G, 5 D, 6 D

## HAT2028R
designator Q?
Silicon N-Channel Power MOSFET, High Speed Power Switching; Published: 30-Oct-2009; DatasheetVersion: Rev.5.00, Sep-2005; PackageVersion: Sep-2005; PackageReference: PRSP0008DD-A; Publisher: Altium Limited; PackageDescription: 8-Pin Plastic Small Outline Integrated Circuit 1.27 mm Pitch (SOP-8); Code_IPC: SOIC127P600-8; ComponentLink1Description: Manufacturer Link; ComponentLink1URL: http://sg.renesas.com/fmwk.jsp?cnt=discrete_category_landing.jsp&fp=/products/discrete/; ComponentLink2Description: Datasheet; ComponentLink2URL: http://documentation.renesas.com/eng/products/transistor/rej03g1163_hat2028rrjds.pdf; ComponentLink3Description: Packaging Specification; ComponentLink3URL: http://sg.renesas.com/media/products/common_info/package/pdf/transistor/code/prsp0008dd_a.pdf
footprint PRSP0008DD-A_N (SOIC, 8-Leads, Body 4.9x3.95mm, Pitch 1.27mm, IPC Medium Density)
footprint PRSP0008DD-A_L (SOIC, 8-Leads, Body 4.9x3.95mm, Pitch 1.27mm, IPC High Density)
footprint PRSP0008DD-A_M (SOIC, 8-Leads, Body 4.9x3.95mm, Pitch 1.27mm, IPC Low Density)
part A pins: 1 S, 2 G, 7 D, 8 D
part B pins: 3 S, 4 G, 5 D, 6 D

## HAT2029R
designator Q?
Silicon N-Channel Power MOSFET, High Speed Power Switching; Published: 30-Oct-2009; DatasheetVersion: Rev.6.00, Sep-2005; PackageVersion: Sep-2005; PackageReference: PRSP0008DD-A; Publisher: Altium Limited; PackageDescription: 8-Pin Plastic Small Outline Integrated Circuit 1.27 mm Pitch (SOP-8); Code_IPC: SOIC127P600-8; ComponentLink1Description: Manufacturer Link; ComponentLink1URL: http://sg.renesas.com/fmwk.jsp?cnt=discrete_category_landing.jsp&fp=/products/discrete/; ComponentLink2Description: Datasheet; ComponentLink2URL: http://documentation.renesas.com/eng/products/transistor/rej03g1164_hat2029rds.pdf; ComponentLink3Description: Packaging Specification; ComponentLink3URL: http://sg.renesas.com/media/products/common_info/package/pdf/transistor/code/prsp0008dd_a.pdf
footprint PRSP0008DD-A_N (SOIC, 8-Leads, Body 4.9x3.95mm, Pitch 1.27mm, IPC Medium Density)
footprint PRSP0008DD-A_L (SOIC, 8-Leads, Body 4.9x3.95mm, Pitch 1.27mm, IPC High Density)
footprint PRSP0008DD-A_M (SOIC, 8-Leads, Body 4.9x3.95mm, Pitch 1.27mm, IPC Low Density)
part A pins: 1 S, 2 G, 7 D, 8 D
part B pins: 3 S, 4 G, 5 D, 6 D

## HAT2033R
designator Q?
Silicon N-Channel Power MOSFET, High Speed Power Switching; Published: 30-Oct-2009; DatasheetVersion: Rev.4.00, Sep-2005; PackageVersion: Sep-2005; PackageReference: PRSP0008DD-A; Publisher: Altium Limited; PackageDescription: 8-Pin Plastic Small Outline Integrated Circuit 1.27 mm Pitch (SOP-8); Code_IPC: SOIC127P600-8; ComponentLink1Description: Manufacturer Link; ComponentLink1URL: http://sg.renesas.com/fmwk.jsp?cnt=discrete_category_landing.jsp&fp=/products/discrete/; ComponentLink2Description: Datasheet; ComponentLink2URL: http://documentation.renesas.com/eng/products/transistor/rej03g1165_hat2033rrjds.pdf; ComponentLink3Description: Packaging Specification; ComponentLink3URL: http://sg.renesas.com/media/products/common_info/package/pdf/transistor/code/prsp0008dd_a.pdf
footprint PRSP0008DD-A_N (SOIC, 8-Leads, Body 4.9x3.95mm, Pitch 1.27mm, IPC Medium Density)
footprint PRSP0008DD-A_L (SOIC, 8-Leads, Body 4.9x3.95mm, Pitch 1.27mm, IPC High Density)
footprint PRSP0008DD-A_M (SOIC, 8-Leads, Body 4.9x3.95mm, Pitch 1.27mm, IPC Low Density)
pins: 1 S, 2 S, 3 S, 4 G, 5 D, 6 D, 7 D, 8 D

## HAT2035R
designator Q?
Silicon N-Channel Power MOSFET, High Speed Power Switching; Published: 30-Oct-2009; DatasheetVersion: Rev.1.00, Jun-2005; PackageVersion: Sep-2005; PackageReference: PRSP0008DD-A; Publisher: Altium Limited; PackageDescription: 8-Pin Plastic Small Outline Integrated Circuit 1.27 mm Pitch (SOP-8); Code_IPC: SOIC127P600-8; ComponentLink1Description: Manufacturer Link; ComponentLink1URL: http://sg.renesas.com/fmwk.jsp?cnt=discrete_category_landing.jsp&fp=/products/discrete/; ComponentLink2Description: Datasheet; ComponentLink2URL: http://documentation.renesas.com/eng/products/transistor/rej03g1242_hat2035r.pdf; ComponentLink3Description: Packaging Specification; ComponentLink3URL: http://sg.renesas.com/media/products/common_info/package/pdf/transistor/code/prsp0008dd_a.pdf
footprint PRSP0008DD-A_N (SOIC, 8-Leads, Body 4.9x3.95mm, Pitch 1.27mm, IPC Medium Density)
footprint PRSP0008DD-A_L (SOIC, 8-Leads, Body 4.9x3.95mm, Pitch 1.27mm, IPC High Density)
footprint PRSP0008DD-A_M (SOIC, 8-Leads, Body 4.9x3.95mm, Pitch 1.27mm, IPC Low Density)
part A pins: 1 S, 2 G, 7 D, 8 D
part B pins: 3 S, 4 G, 5 D, 6 D

## HAT2036R
designator Q?
Silicon N-Channel Power MOSFET, Power Switching; Published: 30-Oct-2009; DatasheetVersion: Rev.6.00, Sep-2005; PackageVersion: Sep-2005; PackageReference: PRSP0008DD-A; Publisher: Altium Limited; PackageDescription: 8-Pin Plastic Small Outline Integrated Circuit 1.27 mm Pitch (SOP-8); Code_IPC: SOIC127P600-8; ComponentLink1Description: Manufacturer Link; ComponentLink1URL: http://sg.renesas.com/fmwk.jsp?cnt=discrete_category_landing.jsp&fp=/products/discrete/; ComponentLink2Description: Datasheet; ComponentLink2URL: http://documentation.renesas.com/eng/products/transistor/rej03g1166_hat2036rds.pdf; ComponentLink3Description: Packaging Specification; ComponentLink3URL: http://sg.renesas.com/media/products/common_info/package/pdf/transistor/code/prsp0008dd_a.pdf
footprint PRSP0008DD-A_N (SOIC, 8-Leads, Body 4.9x3.95mm, Pitch 1.27mm, IPC Medium Density)
footprint PRSP0008DD-A_L (SOIC, 8-Leads, Body 4.9x3.95mm, Pitch 1.27mm, IPC High Density)
footprint PRSP0008DD-A_M (SOIC, 8-Leads, Body 4.9x3.95mm, Pitch 1.27mm, IPC Low Density)
pins: 1 S, 2 S, 3 S, 4 G, 5 D, 6 D, 7 D, 8 D

## HAT2038R
designator Q?
Silicon N-Channel Power MOSFET, High Speed Power Switching; Published: 30-Oct-2009; DatasheetVersion: Rev.5.00, Sep-2005; PackageVersion: Sep-2005; PackageReference: PRSP0008DD-A; Publisher: Altium Limited; PackageDescription: 8-Pin Plastic Small Outline Integrated Circuit 1.27 mm Pitch (SOP-8); Code_IPC: SOIC127P600-8; ComponentLink1Description: Manufacturer Link; ComponentLink1URL: http://sg.renesas.com/fmwk.jsp?cnt=discrete_category_landing.jsp&fp=/products/discrete/; ComponentLink2Description: Datasheet; ComponentLink2URL: http://documentation.renesas.com/eng/products/transistor/rej03g1167_hat2038rrjds.pdf; ComponentLink3Description: Packaging Specification; ComponentLink3URL: http://sg.renesas.com/media/products/common_info/package/pdf/transistor/code/prsp0008dd_a.pdf
footprint PRSP0008DD-A_N (SOIC, 8-Leads, Body 4.9x3.95mm, Pitch 1.27mm, IPC Medium Density)
footprint PRSP0008DD-A_L (SOIC, 8-Leads, Body 4.9x3.95mm, Pitch 1.27mm, IPC High Density)
footprint PRSP0008DD-A_M (SOIC, 8-Leads, Body 4.9x3.95mm, Pitch 1.27mm, IPC Low Density)
part A pins: 1 S, 2 G, 7 D, 8 D
part B pins: 3 S, 4 G, 5 D, 6 D

## HAT2040R
designator Q?
Silicon N-Channel Power MOSFET, Power Switching; Published: 30-Oct-2009; DatasheetVersion: Rev.6.00, Sep-2005; PackageVersion: Sep-2005; PackageReference: PRSP0008DD-A; Publisher: Altium Limited; PackageDescription: 8-Pin Plastic Small Outline Integrated Circuit 1.27 mm Pitch (SOP-8); Code_IPC: SOIC127P600-8; ComponentLink1Description: Manufacturer Link; ComponentLink1URL: http://sg.renesas.com/fmwk.jsp?cnt=discrete_category_landing.jsp&fp=/products/discrete/; ComponentLink2Description: Datasheet; ComponentLink2URL: http://documentation.renesas.com/eng/products/transistor/rej03g1168_hat2040rds.pdf; ComponentLink3Description: Packaging Specification; ComponentLink3URL: http://sg.renesas.com/media/products/common_info/package/pdf/transistor/code/prsp0008dd_a.pdf
footprint PRSP0008DD-A_N (SOIC, 8-Leads, Body 4.9x3.95mm, Pitch 1.27mm, IPC Medium Density)
footprint PRSP0008DD-A_L (SOIC, 8-Leads, Body 4.9x3.95mm, Pitch 1.27mm, IPC High Density)
footprint PRSP0008DD-A_M (SOIC, 8-Leads, Body 4.9x3.95mm, Pitch 1.27mm, IPC Low Density)
pins: 1 S, 2 S, 3 S, 4 G, 5 D, 6 D, 7 D, 8 D

## HAT2043R
designator Q?
Silicon N-Channel Power MOSFET, High Speed Power Switching; Published: 30-Oct-2009; DatasheetVersion: Rev.6.00, Sep-2005; PackageVersion: Sep-2005; PackageReference: PRSP0008DD-A; Publisher: Altium Limited; PackageDescription: 8-Pin Plastic Small Outline Integrated Circuit 1.27 mm Pitch (SOP-8); Code_IPC: SOIC127P600-8; ComponentLink1Description: Manufacturer Link; ComponentLink1URL: http://sg.renesas.com/fmwk.jsp?cnt=discrete_category_landing.jsp&fp=/products/discrete/; ComponentLink2Description: Datasheet; ComponentLink2URL: http://documentation.renesas.com/eng/products/transistor/rej03g1169_hat2043rds.pdf; ComponentLink3Description: Packaging Specification; ComponentLink3URL: http://sg.renesas.com/media/products/common_info/package/pdf/transistor/code/prsp0008dd_a.pdf
footprint PRSP0008DD-A_N (SOIC, 8-Leads, Body 4.9x3.95mm, Pitch 1.27mm, IPC Medium Density)
footprint PRSP0008DD-A_L (SOIC, 8-Leads, Body 4.9x3.95mm, Pitch 1.27mm, IPC High Density)
footprint PRSP0008DD-A_M (SOIC, 8-Leads, Body 4.9x3.95mm, Pitch 1.27mm, IPC Low Density)
part A pins: 1 S, 2 G, 7 D, 8 D
part B pins: 3 S, 4 G, 5 D, 6 D

## HAT2044R
designator Q?
Silicon N-Channel Power MOSFET, Power Switching; Published: 30-Oct-2009; DatasheetVersion: Rev.3.00, Sep-2005; PackageVersion: Sep-2005; PackageReference: PRSP0008DD-A; Publisher: Altium Limited; PackageDescription: 8-Pin Plastic Small Outline Integrated Circuit 1.27 mm Pitch (SOP-8); Code_IPC: SOIC127P600-8; ComponentLink1Description: Manufacturer Link; ComponentLink1URL: http://sg.renesas.com/fmwk.jsp?cnt=discrete_category_landing.jsp&fp=/products/discrete/; ComponentLink2Description: Datasheet; ComponentLink2URL: http://documentation.renesas.com/eng/products/transistor/rej03g1170_hat2044rds.pdf; ComponentLink3Description: Packaging Specification; ComponentLink3URL: http://sg.renesas.com/media/products/common_info/package/pdf/transistor/code/prsp0008dd_a.pdf
footprint PRSP0008DD-A_N (SOIC, 8-Leads, Body 4.9x3.95mm, Pitch 1.27mm, IPC Medium Density)
footprint PRSP0008DD-A_L (SOIC, 8-Leads, Body 4.9x3.95mm, Pitch 1.27mm, IPC High Density)
footprint PRSP0008DD-A_M (SOIC, 8-Leads, Body 4.9x3.95mm, Pitch 1.27mm, IPC Low Density)
pins: 1 S, 2 S, 3 S, 4 G, 5 D, 6 D, 7 D, 8 D

## HAT2050T
designator Q?
Silicon N-Channel Power MOSFET, High Speed Power Switching; Published: 30-Oct-2009; DatasheetVersion: Rev.3.00, Sep-2005; PackageVersion: Sep-2007; PackageReference: PTSP0008JB-A; Publisher: Altium Limited; PackageDescription: 8-Pin Plastic Thin Small Outline Package 0.65 mm Pitch (TSSOP-8); Code_JEITA: P-TSSOP8-4.4×3-0.65; ComponentLink1Description: Manufacturer Link; ComponentLink1URL: http://sg.renesas.com/fmwk.jsp?cnt=discrete_category_landing.jsp&fp=/products/discrete/; ComponentLink2Description: Datasheet; ComponentLink2URL: http://documentation.renesas.com/eng/products/transistor/rej03g1171_hat2050tds.pdf; ComponentLink3Description: Packaging Specification; ComponentLink3URL: http://sg.renesas.com/media/products/common_info/package/pdf/transistor/code/ptsp0008jb_a.pdf
footprint PTSP0008JB-A_N (TSOP, 8-Leads, Body 3x4.4mm, Pitch 0.65mm, IPC Medium Density)
footprint PTSP0008JB-A_L (TSOP, 8-Leads, Body 3x4.4mm, Pitch 0.65mm, IPC High Density)
footprint PTSP0008JB-A_M (TSOP, 8-Leads, Body 3x4.4mm, Pitch 0.65mm, IPC Low Density)
part A pins: 1 D, 2 S, 3 S, 4 G
part B pins: 5 G, 6 S, 7 S, 8 D

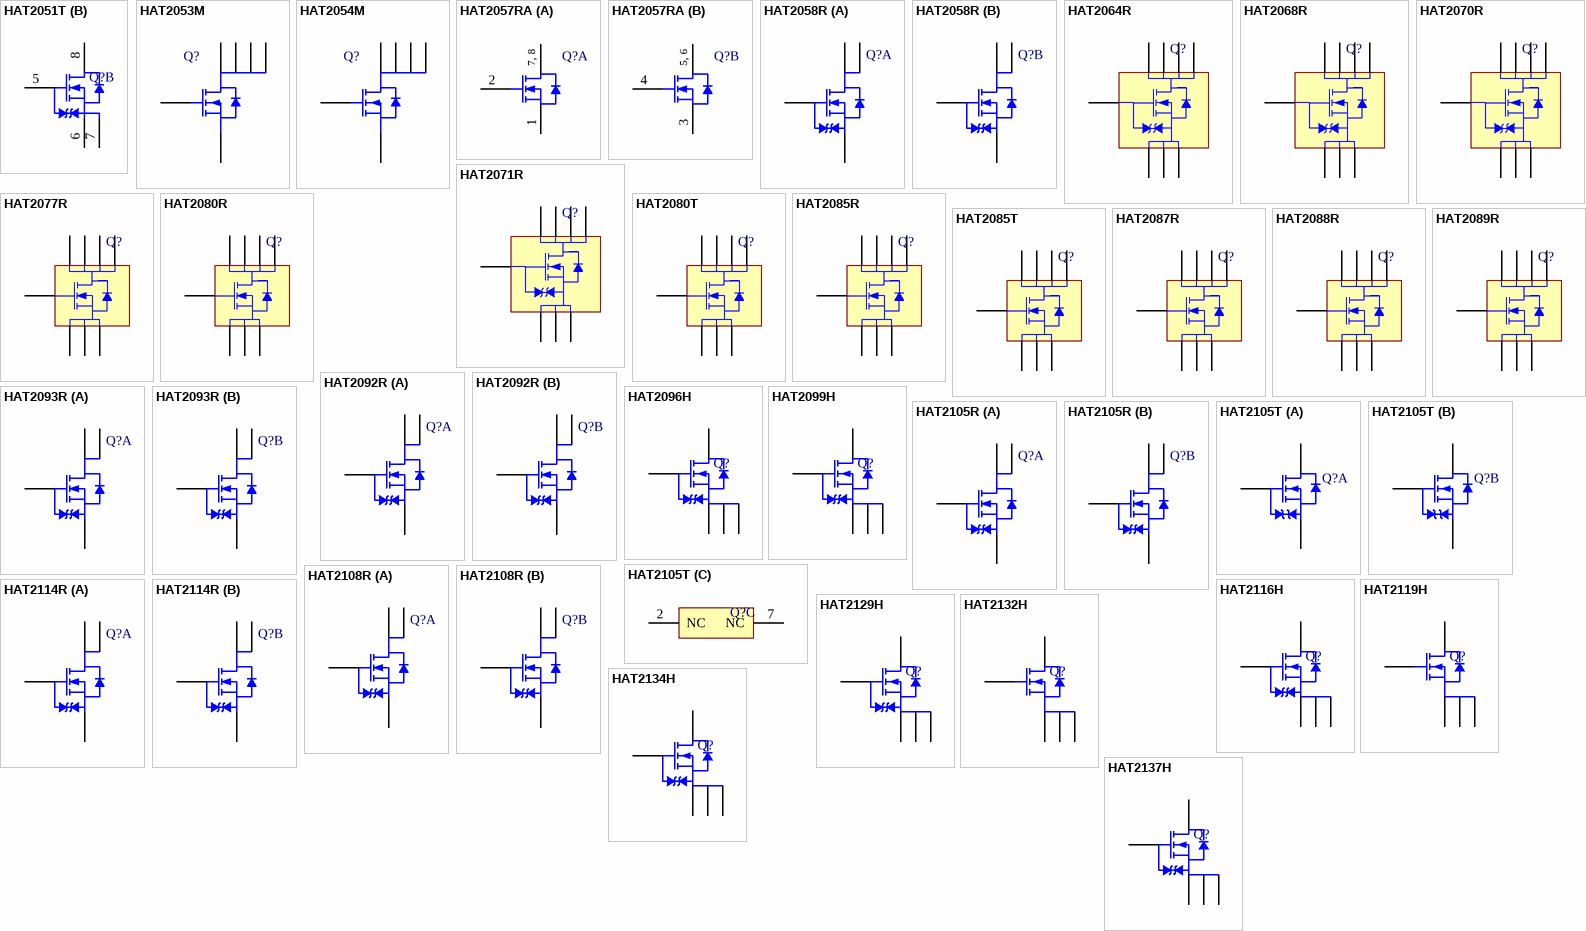
[diagram p14: symbols HAT2051T to HAT2137H]

## HAT2051T
designator Q?
Silicon N-Channel Power MOSFET, High Speed Power Switching; Published: 30-Oct-2009; DatasheetVersion: Rev.2.0, Feb-1999; PackageVersion: Sep-2007; PackageReference: PTSP0008JB-A; Publisher: Altium Limited; PackageDescription: 8-Pin Plastic Thin Small Outline Package 0.65 mm Pitch (TSSOP-8); Code_JEITA: P-TSSOP8-4.4×3-0.65; ComponentLink1Description: Manufacturer Link; ComponentLink1URL: http://sg.renesas.com/fmwk.jsp?cnt=discrete_category_landing.jsp&fp=/products/discrete/; ComponentLink2Description: Datasheet; ComponentLink2URL: http://documentation.renesas.com/eng/products/transistor/e208661_hat2051t.pdf; ComponentLink3Description: Packaging Specification; ComponentLink3URL: http://sg.renesas.com/media/products/common_info/package/pdf/transistor/code/ptsp0008jb_a.pdf
footprint PTSP0008JB-A_N (TSOP, 8-Leads, Body 3x4.4mm, Pitch 0.65mm, IPC Medium Density)
footprint PTSP0008JB-A_L (TSOP, 8-Leads, Body 3x4.4mm, Pitch 0.65mm, IPC High Density)
footprint PTSP0008JB-A_M (TSOP, 8-Leads, Body 3x4.4mm, Pitch 0.65mm, IPC Low Density)
part A pins: 1 D, 2 S, 3 S, 4 G
part B pins: 5 G, 6 S, 7 S, 8 D

## HAT2053M
designator Q?
Silicon N-Channel Power MOSFET, Power Switching; Published: 30-Oct-2009; DatasheetVersion: Rev.5.00, Sep-2005; PackageVersion: Jul-2006; PackageReference: PTSP0006FA-A; Publisher: Altium Limited; PackageDescription: 6-Pin SOT-23 Package 1 mm Pitch, 2.8 mm Lead Span (TSOP-6); Code_JEITA: SC-95 Modified; ComponentLink1Description: Manufacturer Link; ComponentLink1URL: http://sg.renesas.com/fmwk.jsp?cnt=discrete_category_landing.jsp&fp=/products/discrete/; ComponentLink2Description: Datasheet; ComponentLink2URL: http://documentation.renesas.com/eng/products/transistor/rej03g1172_hat2053mds.pdf; ComponentLink3Description: Packaging Specification; ComponentLink3URL: http://sg.renesas.com/media/products/common_info/package/pdf/transistor/code/ptsp0006fa_a.pdf
footprint PTSP0006FA-A_N (SOT23, 6-Leads, Body 3x1.6mm, Pitch 1mm, Lead Span 2.8mm, IPC Medium Density)
footprint PTSP0006FA-A_L (SOT23, 6-Leads, Body 3x1.6mm, Pitch 1mm, Lead Span 2.8mm, IPC High Density)
footprint PTSP0006FA-A_M (SOT23, 6-Leads, Body 3x1.6mm, Pitch 1mm, Lead Span 2.8mm, IPC Low Density)
pins: 1 D, 2 D, 3 G, 4 S, 5 D, 6 D

## HAT2054M
designator Q?
Silicon N-Channel Power MOSFET, Power Switching; Published: 30-Oct-2009; DatasheetVersion: Rev.4.00, Sep-2005; PackageVersion: Jul-2006; PackageReference: PTSP0006FA-A; Publisher: Altium Limited; PackageDescription: 6-Pin SOT-23 Package 1 mm Pitch, 2.8 mm Lead Span (TSOP-6); Code_JEITA: SC-95 Modified; ComponentLink1Description: Manufacturer Link; ComponentLink1URL: http://sg.renesas.com/fmwk.jsp?cnt=discrete_category_landing.jsp&fp=/products/discrete/; ComponentLink2Description: Datasheet; ComponentLink2URL: http://documentation.renesas.com/eng/products/transistor/rej03g1173_hat2054mds.pdf; ComponentLink3Description: Packaging Specification; ComponentLink3URL: http://sg.renesas.com/media/products/common_info/package/pdf/transistor/code/ptsp0006fa_a.pdf
footprint PTSP0006FA-A_N (SOT23, 6-Leads, Body 3x1.6mm, Pitch 1mm, Lead Span 2.8mm, IPC Medium Density)
footprint PTSP0006FA-A_L (SOT23, 6-Leads, Body 3x1.6mm, Pitch 1mm, Lead Span 2.8mm, IPC High Density)
footprint PTSP0006FA-A_M (SOT23, 6-Leads, Body 3x1.6mm, Pitch 1mm, Lead Span 2.8mm, IPC Low Density)
pins: 1 D, 2 D, 3 G, 4 S, 5 D, 6 D

## HAT2057RA
designator Q?
Silicon N-Channel Power MOSFET, High Speed Power Switching; Published: 30-Oct-2009; DatasheetVersion: Rev.0.0, Feb-2003; PackageVersion: Sep-2005; PackageReference: PRSP0008DD-A; Publisher: Altium Limited; PackageDescription: 8-Pin Plastic Small Outline Integrated Circuit 1.27 mm Pitch (SOP-8); Code_IPC: SOIC127P600-8; ComponentLink1Description: Manufacturer Link; ComponentLink1URL: http://sg.renesas.com/fmwk.jsp?cnt=discrete_category_landing.jsp&fp=/products/discrete/; ComponentLink2Description: Datasheet; ComponentLink2URL: http://documentation.renesas.com/eng/products/transistor/e2081636_hat2057ra.pdf; ComponentLink3Description: Packaging Specification; ComponentLink3URL: http://sg.renesas.com/media/products/common_info/package/pdf/transistor/code/prsp0008dd_a.pdf
footprint PRSP0008DD-A_N (SOIC, 8-Leads, Body 4.9x3.95mm, Pitch 1.27mm, IPC Medium Density)
footprint PRSP0008DD-A_L (SOIC, 8-Leads, Body 4.9x3.95mm, Pitch 1.27mm, IPC High Density)
footprint PRSP0008DD-A_M (SOIC, 8-Leads, Body 4.9x3.95mm, Pitch 1.27mm, IPC Low Density)
part A pins: 1 S, 2 G, 7 D, 8 D
part B pins: 3 S, 4 G, 5 D, 6 D
part A text: 7, 8
part B text: 5, 6

## HAT2058R
designator Q?
Silicon N-Channel Power MOSFET, High Speed Power Switching; Published: 30-Oct-2009; DatasheetVersion: Rev.2.00, Sep-2005; PackageVersion: Sep-2005; PackageReference: PRSP0008DD-A; Publisher: Altium Limited; PackageDescription: 8-Pin Plastic Small Outline Integrated Circuit 1.27 mm Pitch (SOP-8); Code_IPC: SOIC127P600-8; ComponentLink1Description: Manufacturer Link; ComponentLink1URL: http://sg.renesas.com/fmwk.jsp?cnt=discrete_category_landing.jsp&fp=/products/discrete/; ComponentLink2Description: Datasheet; ComponentLink2URL: http://documentation.renesas.com/eng/products/transistor/rej03g1174_hat2058rrjds.pdf; ComponentLink3Description: Packaging Specification; ComponentLink3URL: http://sg.renesas.com/media/products/common_info/package/pdf/transistor/code/prsp0008dd_a.pdf
footprint PRSP0008DD-A_N (SOIC, 8-Leads, Body 4.9x3.95mm, Pitch 1.27mm, IPC Medium Density)
footprint PRSP0008DD-A_L (SOIC, 8-Leads, Body 4.9x3.95mm, Pitch 1.27mm, IPC High Density)
footprint PRSP0008DD-A_M (SOIC, 8-Leads, Body 4.9x3.95mm, Pitch 1.27mm, IPC Low Density)
part A pins: 1 S, 2 G, 7 D, 8 D
part B pins: 3 S, 4 G, 5 D, 6 D

## HAT2064R
designator Q?
Silicon N-Channel Power MOSFET, Power Switching; Published: 30-Oct-2009; DatasheetVersion: Rev.9.00, Sep-2005; PackageVersion: Sep-2005; PackageReference: PRSP0008DD-A; Publisher: Altium Limited; PackageDescription: 8-Pin Plastic Small Outline Integrated Circuit 1.27 mm Pitch (SOP-8); Code_IPC: SOIC127P600-8; ComponentLink1Description: Manufacturer Link; ComponentLink1URL: http://sg.renesas.com/fmwk.jsp?cnt=discrete_category_landing.jsp&fp=/products/discrete/; ComponentLink2Description: Datasheet; ComponentLink2URL: http://documentation.renesas.com/eng/products/transistor/rej03g1175_hat2064rds.pdf; ComponentLink3Description: Packaging Specification; ComponentLink3URL: http://sg.renesas.com/media/products/common_info/package/pdf/transistor/code/prsp0008dd_a.pdf
footprint PRSP0008DD-A_N (SOIC, 8-Leads, Body 4.9x3.95mm, Pitch 1.27mm, IPC Medium Density)
footprint PRSP0008DD-A_L (SOIC, 8-Leads, Body 4.9x3.95mm, Pitch 1.27mm, IPC High Density)
footprint PRSP0008DD-A_M (SOIC, 8-Leads, Body 4.9x3.95mm, Pitch 1.27mm, IPC Low Density)
pins: 1 S, 2 S, 3 S, 4 G, 5 D, 6 D, 7 D, 8 D